# EAGLE library part SN74AVC4T245 (library m_ic-signal)
SN74AVC4T245 Dual-Bit Bus Transceiver with Configurable Voltage Translation and 3-State Outputs http://www.ti.com/lit/ds/symlink/sn74avc4t245.pdf
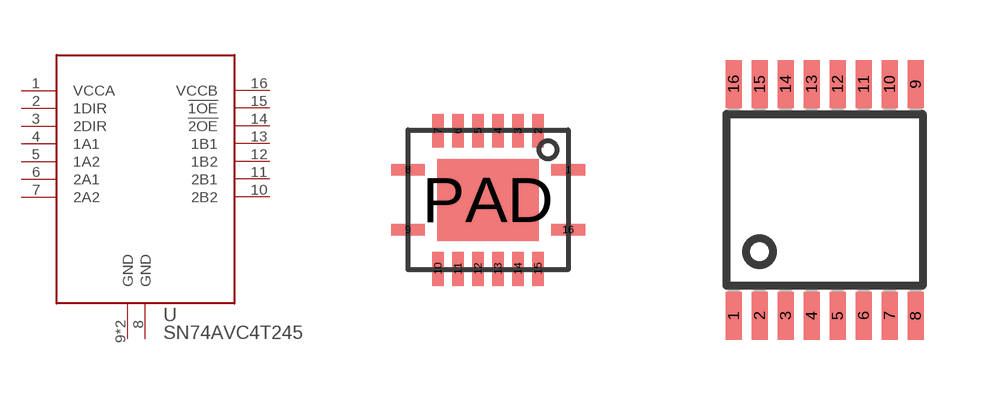
[diagram p12: symbol with the pads of R-PVQFN-N16; footprints R-PVQFN-N16, R-PDSO-G16]

Designator prefix U

## SN74AVC4T245RGY (MANUF: TEXAS INSTRUMENTS; PARTNUM: SN74AVC4T245)  [R-PVQFN-N16]
1  VCCA
2  1DIR
3  2DIR
4  1A1
5  1A2
6  2A1
7  2A2
8  GND
9  GND
10  2B2
11  2B1
12  1B2
13  1B1
14  !2OE
15  !1OE
16  VCCB
PAD  GND

## SN74AVC4T245PW  [R-PDSO-G16]
1  VCCA
2  1DIR
3  2DIR
4  1A1
5  1A2
6  2A1
7  2A2
8  GND
9  GND
10  2B2
11  2B1
12  1B2
13  1B1
14  !2OE
15  !1OE
16  VCCB

## Footprint R-PVQFN-N16 (pad centres in mm)
smd 0.85 x 0.28: 1 2,0.75; 8 -2,0.75; 9 -2,-0.75; 16 2,-0.75
smd 0.28 x 0.85: 2 1.25,1.725; 3 0.75,1.725; 4 0.25,1.725; 5 -0.25,1.725; 6 -0.75,1.725; 7 -1.25,1.725; 10 -1.25,-1.725; 11 -0.75,-1.725; 12 -0.25,-1.725; 13 0.25,-1.725; 14 0.75,-1.725; 15 1.25,-1.725
smd 2.55 x 2.05: PAD 0,0

## Footprint R-PDSO-G16 (pad centres in mm)
PLASTIC SMALL-OUTLINE PACKAGE SO 16 JEDEC MO-153 Source: www.ti.com/.. slvs087l.pdf
smd 0.4 x 1.2: 1 -2.275,-2.9; 2 -1.625,-2.9; 3 -0.975,-2.9; 4 -0.325,-2.9; 5 0.325,-2.9; 6 0.975,-2.9; 7 1.625,-2.9; 8 2.275,-2.9; 9 2.275,2.9; 10 1.625,2.9; 11 0.975,2.9; 12 0.325,2.9; 13 -0.325,2.9; 14 -0.975,2.9; 15 -1.625,2.9; 16 -2.275,2.9